# EAGLE library part TI-SN74LV4051A (library Rover_bib)
SN74LV4051A 8-Channel Analog Multiplexer/Demultiplexer The SN74LV4051A 8-channel CMOS analog multiplexers and demultiplexers are designed for 2-V to 5.5-V VCC operation. The SN74LV4051A devices handle both analog and digital signals. Each channel permits signals with amplitudes up to 5.5-V (peak) to be transmitted in either direction. Applications include: signal gating, chopping, modulation or demodulation (modem), and signal multiplexing for analog-to-digital and digital-to-analog conversion systems.
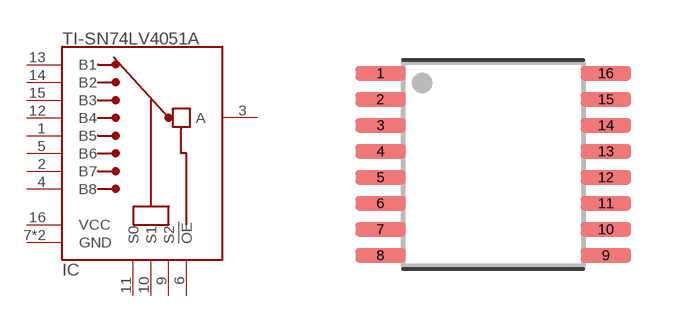
[diagram p7: symbol with the pads of SOP16P65_500X640X120L62X24L; footprint SOP16P65_500X640X120L62X24L]

Designator prefix IC

## TI-SN74LV4051APW  [SOP16P65_500X640X120L62X24L]
1  B5  in
2  B7  in
3  A  out
4  B8  in
5  B6  in
6  !OE  in
7  GND  pwr
8  GND  pwr
9  S2  in
10  S1  in
11  S0  in
12  B4  in
13  B1  in
14  B2  in
15  B3  in
16  VCC  pwr

## Footprint SOP16P65_500X640X120L62X24L (pad centres in mm)
TSSOP16 IPC: SOP16P65_500X640X120L62X24L Manufacturer: R-PDSO-G16 Created: L. Lischke 2017-10-19 (c) KK-Prime Engineering GmbH Edited: L. Lischke 2017-10-19 (c) KK-Prime Engineering GmbH Changes: Nothing changed! Small Outline Pkg (SOP), 0.65 mm pitch; 16 pin, 5.00 mm L X 4.40 mm W X 1.20 mm H body PCB Libraries Packages
smd 1.27 x 0.37: 1 -2.82,2.275; 2 -2.82,1.625; 3 -2.82,0.975; 4 -2.82,0.325; 5 -2.82,-0.325; 6 -2.82,-0.975; 7 -2.82,-1.625; 8 -2.82,-2.275; 9 2.82,-2.275; 10 2.82,-1.625; 11 2.82,-0.975; 12 2.82,-0.325; 13 2.82,0.325; 14 2.82,0.975; 15 2.82,1.625; 16 2.82,2.275